# Altium footprint library DRA818_footprint.PcbLib: 1 footprints
Each footprint in its own frame and in the unit in brackets; x right, y up, seen from the top. Pads: shape width x height; smd on the part's side, far side on the other; paste and mask are expansions set on the pad; w line width, h text height; cw(c..) or ccw(c..) is an arc to the next point about the centre after c.
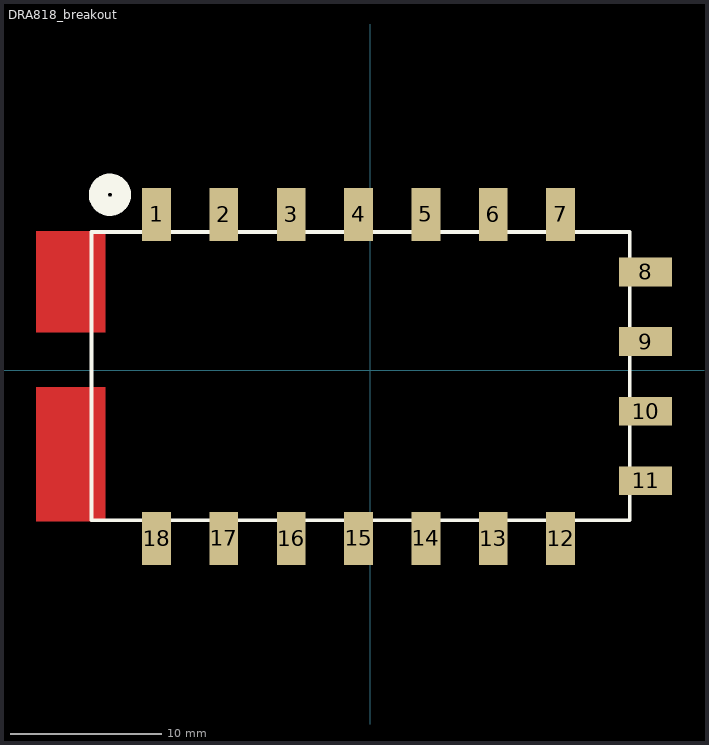
[diagram p0: the footprint, top view; thin cyan lines are the x and y axes]

## DRA818_breakout [mm]
pads (18):
  rect 1.9x3.5 smd: 1(-14.125,10.3) 2(-9.675,10.3) 3(-5.225,10.3) 4(-0.775,10.3) 5(3.675,10.3) 6(8.125,10.3) 7(12.575,10.3) 12(12.575,-11.1) 13(8.125,-11.1) 14(3.675,-11.1) 15(-0.775,-11.1) 16(-5.225,-11.1) 17(-9.675,-11.1) 18(-14.125,-11.1)
  rect 3.5x1.9 smd: 8(18.2,6.499) 9(18.2,1.9) 10(18.2,-2.701) 11(18.2,-7.301)
Top Layer:
  rectangle: -22.1,2.5 -17.5,9.2
  rectangle: -22.1,-10 -17.5,-1.1
Top Overlay:
  circle w1.27: c-17.2,11.6 r0.764
  lines w0.254: -18.415,-9.906 -18.415,9.144 17.145,9.144 17.145,-9.906 -18.415,-9.906
Drill Guide:
  lines w0.254: 12.321,10.3 12.829,10.3 ; 12.575,10.046 12.575,10.554
3D body: height 3, standoff 0, extent -18.414,-9.905 17.144,9.143